# EAGLE library part MS5607 (library EnviroTron)
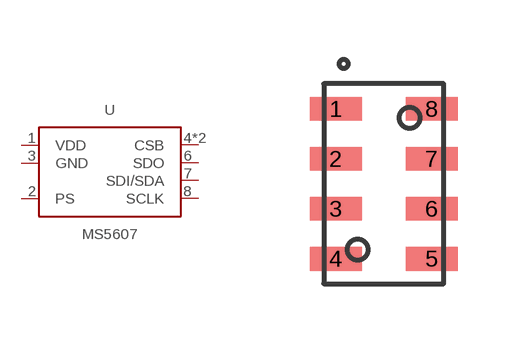
[diagram p1: symbol with the pads of DFN8; footprint DFN8]

Designator prefix -

## MS5607  [DFN8]
1  VDD
2  PS
3  GND
4  CSB
5  CSB
6  SDO
7  SDI/SDA
8  SCLK

## Footprint DFN8 (pad centres in mm)
smd 1.3 x 0.6: 1 -1.2,1.875; 2 -1.2,0.625; 3 -1.2,-0.625; 4 -1.2,-1.875; 5 1.2,-1.875; 6 1.2,-0.625; 7 1.2,0.625; 8 1.2,1.875